# Altium integrated library PIC16F886-I_SP.IntLib: 1 symbol
Pins are listed as number, name and electrical type; pins without a type are passive.

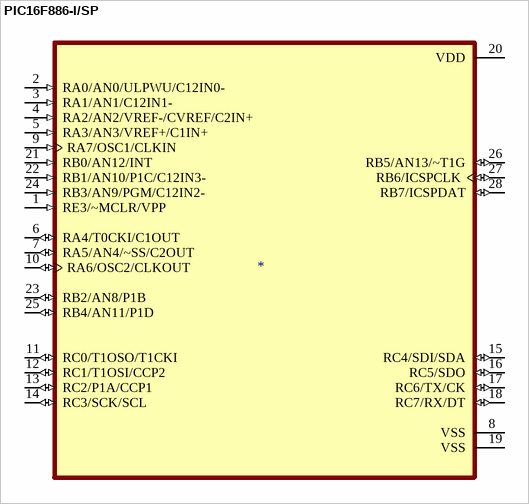
[diagram p0: symbol PIC16F886-I/SP]

## PIC16F886-I/SP
designator ?
PIC PICÂ® 16F Microcontroller IC 8-Bit 20MHz 14KB _8K x 14_ FLASH 28-SPDIP; MF: Microchip; MP: PIC16F886-I/SP; Value: *; SnapEDA_Link: https://www.snapeda.com/parts/PIC16F886-I/SP/Microchip/view-part/44176/?ref=snap; Availability: Unavailable; Price: None; Package: DIP-28 Microchip
footprint DIP762W46P254L3467H457Q28
pins: 1 RE3/~MCLR/VPP (in), 2 RA0/AN0/ULPWU/C12IN0- (in), 3 RA1/AN1/C12IN1- (in), 4 RA2/AN2/VREF-/CVREF/C2IN+ (in), 5 RA3/AN3/VREF+/C1IN+ (in), 6 RA4/T0CKI/C1OUT (io), 7 RA5/AN4/~SS/C2OUT (io), 8 VSS (power), 9 RA7/OSC1/CLKIN (in), 10 RA6/OSC2/CLKOUT (io), 11 RC0/T1OSO/T1CKI (io), 12 RC1/T1OSI/CCP2 (io), 13 RC2/P1A/CCP1 (io), 14 RC3/SCK/SCL (io), 15 RC4/SDI/SDA (io), 16 RC5/SDO (io), 17 RC6/TX/CK (io), 18 RC7/RX/DT (io), 19 VSS (power), 20 VDD (power), 21 RB0/AN12/INT (in), 22 RB1/AN10/P1C/C12IN3- (in), 23 RB2/AN8/P1B (io), 24 RB3/AN9/PGM/C12IN2- (in), 25 RB4/AN11/P1D (io), 26 RB5/AN13/~T1G (io), 27 RB6/ICSPCLK (io), 28 RB7/ICSPDAT (io)